# Altium footprint library Power_connectors.PcbLib: 3 footprints
Each footprint in its own frame and in the unit in brackets; x right, y up, seen from the top. Pads: shape width x height; smd on the part's side, far side on the other; paste and mask are expansions set on the pad; w line width, h text height; cw(c..) or ccw(c..) is an arc to the next point about the centre after c.
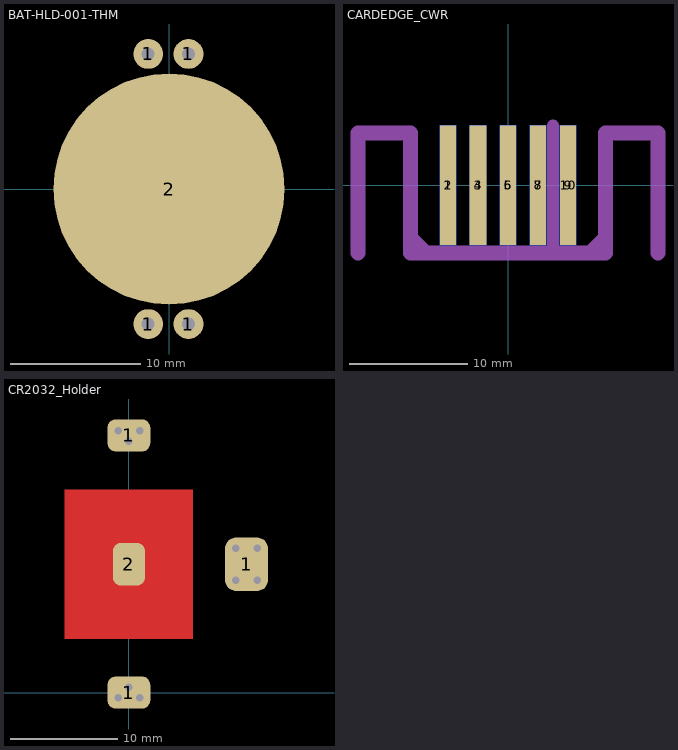
[diagram p0: the footprints below, top view; thin cyan lines are the x and y axes]

## BAT-HLD-001-THM [mm] "Holder for coin cell battery CR2032/CR2025 through hole"
pads (5):
  round 2.3 hole 1: 1(-1.6,-10.4) 1(-1.6,10.4) 1(1.5,-10.4) 1(1.5,10.4)
  round 17.8 smd: 2(0,0)
3D body "CR2032_Holder_Mouser.stp": height 4.2, standoff -3, extent -7.499,-10.55 7.499,10.55

## CARDEDGE_CWR [mil] "CW Industries card edge connector"
pads (10):
  rect 55x400 smd: 1(-200,0) 3(-100,0) 5(0,0) 7(100,0) 9(200,0)
  rect 55x400 smd far side: 2(-200,0) 4(-100,0) 6(0,0) 8(100,0) 10(200,0)
Mechanical 1:
  lines w40: 150,-225 150,200
  lines w50: -500,-225 -500,175 -325,175 -325,-225 325,-225 325,175 500,175 500,-225 ; -325,-175 -275,-225 275,-225 325,-175
3D body "CardEdge.stp": height 546.09, standoff -250, extent -500,-1150 500,180.85

## CR2032_Holder [mm] "CR2032 battery holder"
pads (4):
  rrect50% 4x3 smd: 1(0,0) 1(0,24.05)
  rrect50% 4x5 smd: 1(11,12)
  rrect50% 3x4 smd: 2(0,12)
via -1,24.5 diameter 1 hole 0.7
via 1,24.5 diameter 1 hole 0.7
via 0,23.5 diameter 1 hole 0.7
via 0,0.5 diameter 1 hole 0.7
via -1,-0.5 diameter 1 hole 0.7
via 1,-0.5 diameter 1 hole 0.7
via 12,13.5 diameter 1 hole 0.7
via 12,10.5 diameter 1 hole 0.7
via 10,10.5 diameter 1 hole 0.7
via 10,13.5 diameter 1 hole 0.7
Top Layer:
  rectangle: -6,5 6,19
3D body "CR2032_Holder.stp": height 3.8, standoff 0, extent -9.8,-1.025 12,25.025